# Altium footprint library CAPPRD200W50D500H1250.PcbLib: 1 footprints
Each footprint in its own frame and in the unit in brackets; x right, y up, seen from the top. Pads: shape width x height; smd on the part's side, far side on the other; paste and mask are expansions set on the pad; w line width, h text height; cw(c..) or ccw(c..) is an arc to the next point about the centre after c.
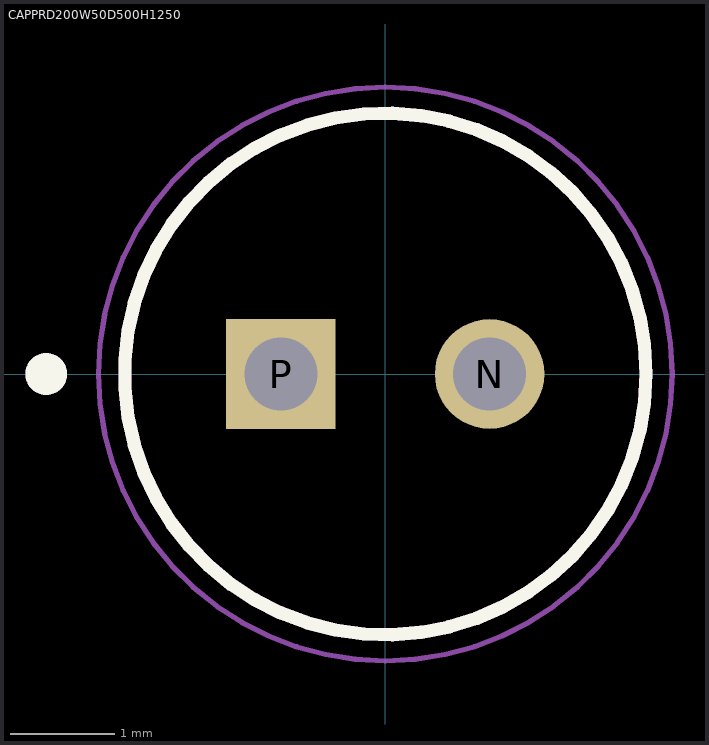
[diagram p0: the footprint, top view; thin cyan lines are the x and y axes]

## CAPPRD200W50D500H1250 [mm]
pads (2):
  round 1.05 hole 0.7: N(1,0)
  rect 1.05x1.05 hole 0.7: P(-1,0)
Top Overlay:
  circle w0.127: c0,0 r2.5
  circle w0.2: c-3.25,0 r0.1
Mechanical 13:
  circle w0.127: c0,0 r2.5
  circle w0.2: c-3.25,0 r0.1
Mechanical 15:
  circle w0.05: c0,0 r2.75
3D body "step_temp.STEP": height 12, standoff -19, extent -2.5,-2.5 2.5,2.5